# Altium schematic symbol library eval1608_sch_lib.SCHLIB: 13 symbols
Pins are listed as number, name and electrical type; pins without a type are passive.

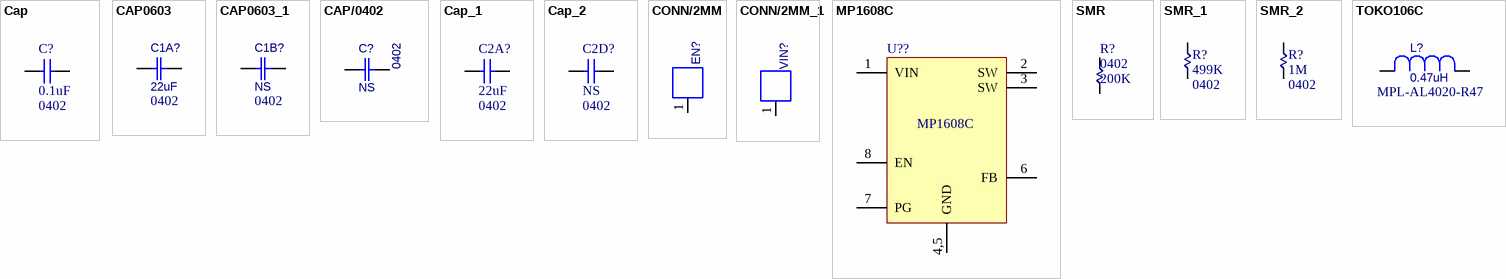
[diagram p0: symbols Cap to TOKO106C]

## Cap
designator C?  value 0.1uF  Package: 0402  (hidden comment: Cap)
50V Ceramic Capacitor
footprint CAP/0402
pins: 1, 2

## CAP0603
designator C1A?, comment value 22uF  (hidden comment: CAP\0603)
CAP0603
footprint CAP/0402
pins: 1, 2
text: 0402

## CAP0603_1
designator C1B?, comment value NS  (hidden comment: CAP\0603)
CAP0603
footprint CAP/0402
pins: 1, 2
text: 0402

## CAP/0402
designator C?  value NS  Package: 0402
{Description}; Manufacturer: {Manufacturer}; Manufacturer P/N: {Manufacturer P/N}
footprint CAP/0402
pins: 1, 2

## Cap_1
designator C2A?, comment value 22uF  Package: 0402  (hidden comment: Cap)
50V Ceramic Capacitor
footprint CAP/0402
pins: 1, 2

## Cap_2
designator C2D?, comment value NS  Package: 0402  (hidden comment: Cap)
50V Ceramic Capacitor
footprint CAP/0402
pins: 1, 2

## CONN/2MM
designator EN?, comment CONN/1MM  (value not drawn)
{Description}; Manufacturer P/N: {Manufacturer P/N}; Manufacturer: {Manufacturer}; Package: {Package}; Value: *
footprint TP/1MM
pins: 1

## CONN/2MM_1
designator VIN?, comment CONN/2MM  (value not drawn)
{Description}; Manufacturer P/N: {Manufacturer P/N}; Manufacturer: {Manufacturer}; Package: {Package}; Value: *
footprint TP/2MM
pins: 1

## MP1608C
designator U??
footprint SOT583
pins: 1 VIN, 2 SW, 3 SW, 4,5 GND, 6 FB, 7 PG, 8 EN

## SMR
designator R?, comment value 200K  Package: 0402  (hidden comment: RC(0603_50V0805_150V1206_200V2512_200V)
Film resistor, 1%; Manufacturer: YAGEO
footprint sm0805
footprint sm1206
footprint sm2512
footprint sm1210
footprint RES/0402
pins: 1, 2

## SMR_1
designator R?, comment value 499K  Package: 0402  (hidden comment: RC(0603_50V0805_150V1206_200V2512_200V)
Film resistor, 1%; Manufacturer: YAGEO
footprint sm0805
footprint sm1206
footprint sm2512
footprint sm1210
footprint RES/0402
pins: 1, 2

## SMR_2
designator R?, comment value 1M  Package: 0402  (hidden comment: RC(0603_50V0805_150V1206_200V2512_200V)
Film resistor, 1%; Manufacturer: YAGEO
footprint sm0805
footprint sm1206
footprint sm2512
footprint sm1210
footprint RES/0402
pins: 1, 2

## TOKO106C
designator L?, comment value 0.47uH  (hidden comment: COILCRAFT/LPO2506IB-682)
TOKO106C
footprint MPL-AL4020-R47
pins: 1, 2
text: MPL-AL4020-R47